# Altium schematic symbol library Battery-Connector.SchLib: 1 symbol
Pins are listed as number, name and electrical type; pins without a type are passive.

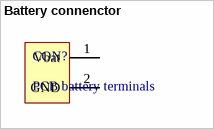
[diagram p0: symbol Battery connenctor]

## Battery connenctor
designator CON?, comment PCB battery terminals
2 pin Battery Connectors
footprint 2032_PCB_LEADS
footprint JST-PH
pins: 1 Vbat, 2 GND